# Altium integrated library Linear Technology Power Management uModule Regulators.IntLib: 166 symbols (part 30 of 67)
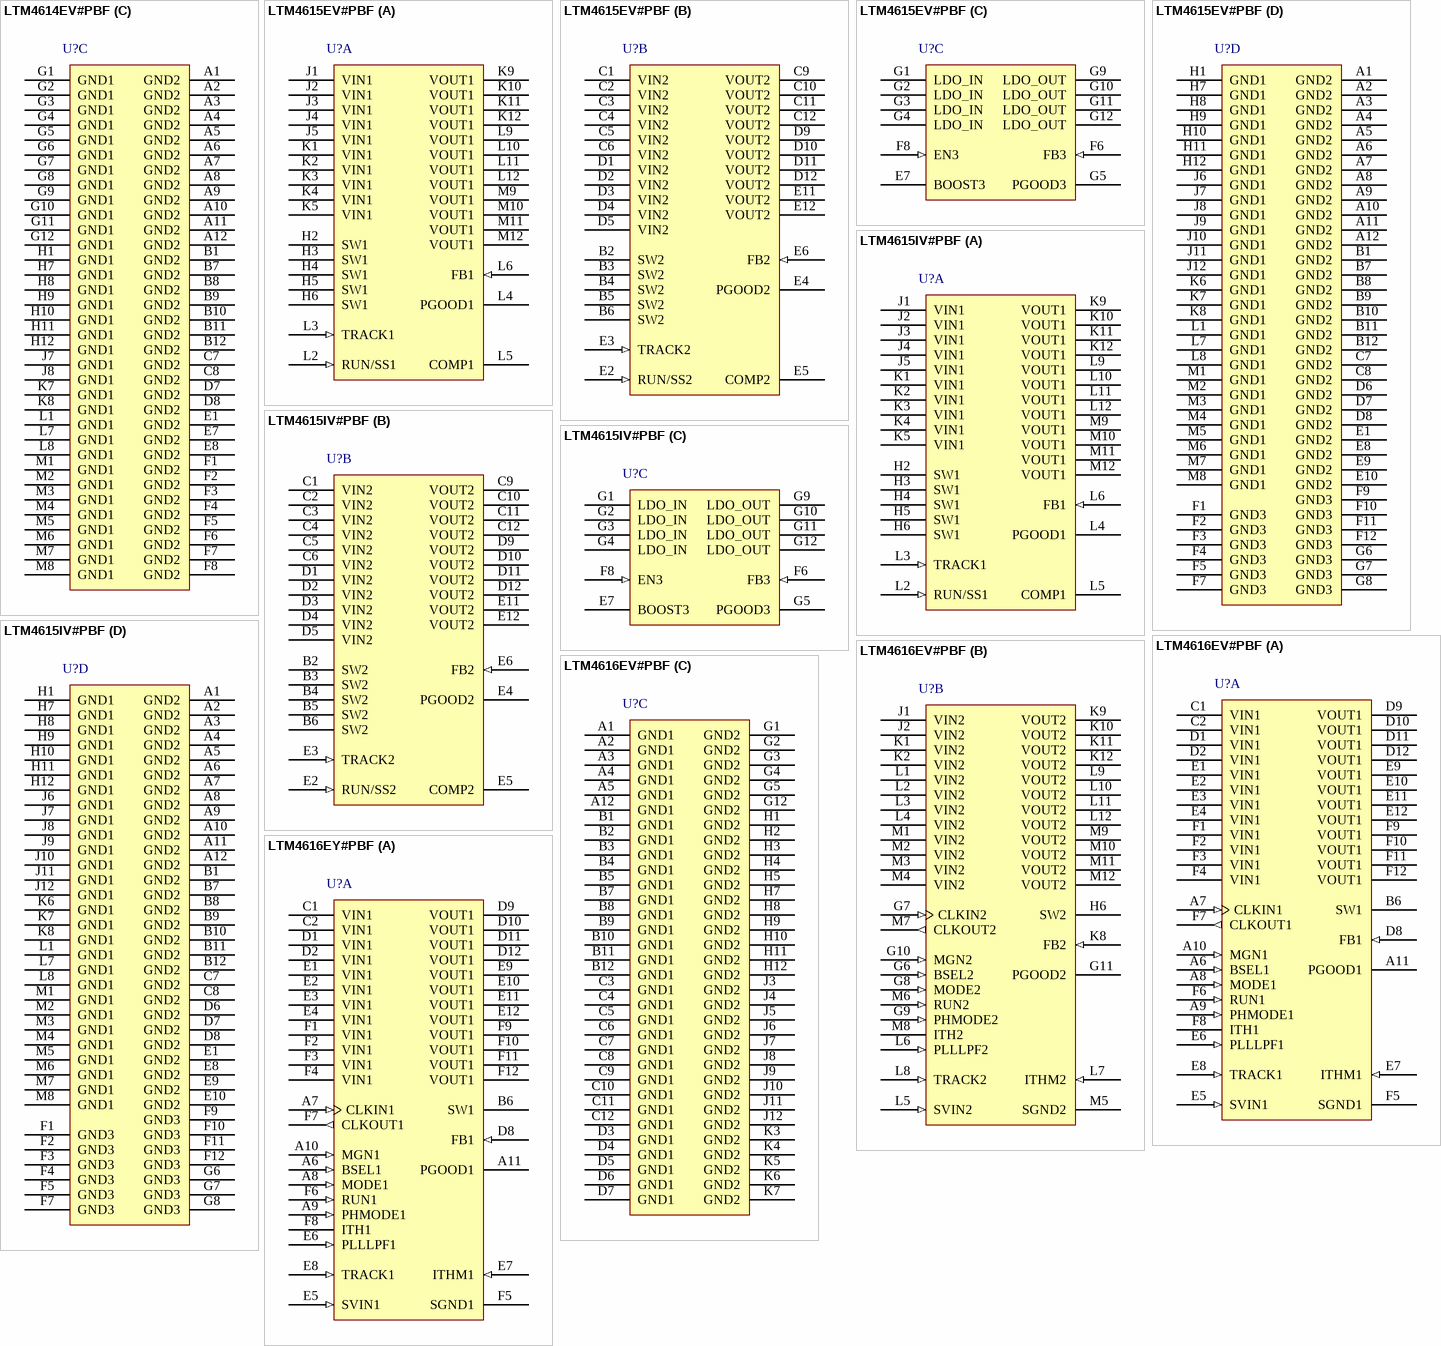
[diagram p56: symbols LTM4614EV#PBF to LTM4616EY#PBF]

## LTM4614EV#PBF
designator U?
Dual 4 A per Channel Low VIN DC/DC uModule Regulator, 144-pin LGA, -40 to 125 degC, Pb-Free, Tray; Manufacturer: Linear Technology; PartNumber: LTM4614EV#PBF; Extended Temp: E, I; Frequency(kHz): 1250; Ishutdown(uA): 7; Isupply(mA): 20; Number of Outputs: 2; Output Current(A): 4; Switch Current(A): 8; Synchronous: yes; Topology: Buck; Vin Max(V): 5.5; Vin Min(V): 2.375; Vout Max(V): 5; Vout Min(V): 0.8; DatasheetVersion: Rev. B; PackageVersion: Rev. C, 01/2013; PackageReference: LGA-144; PackageDescription: 144-Pin LGA, Body 15 x 15 mm, Pitch 1.27 mm; Supplier 1: Digi-Key; Supplier Part Number 1: LTM4614EV#PBF-ND; Supplier 2: Farnell; Supplier Part Number 2: 1799820; Supplier 3: Newark; Supplier Part Number 3: 56P4237; Packing: Tray; RoHS: TRUE; Tracking: yes; Mounting Technology: Surface Mount; Code_JEDEC: MS-028; ComponentLink1Description: Manufacturer URL; ComponentLink1URL: http://www.linear.com/; ComponentLink2Description: Datasheet; ComponentLink2URL: http://cds.linear.com/docs/en/datasheet/4614fb.pdf; ComponentLink3Description: Package Specification; ComponentLink3URL: http://cds.linear.com/docs/en/packaging/05081816_C_lga144.pdf
footprint LT-LGA-144-05-08-1816_V (LGA, 144-Leads, Body 15x15mm, Pitch 1.27mm)
part A pins: H2 SW1 "The switching node of the circuit is used for testing purposes. This can be connected to copper on the board for improved thermal performance.", H3 SW1 "The switching node of the circuit is used for testing purposes. This can be connected to copper on the board for improved thermal performance.", H4 SW1 "The switching node of the circuit is used for testing purposes. This can be connected to copper on the board for improved thermal performance.", H5 SW1 "The switching node of the circuit is used for testing purposes. This can be connected to copper on the board for improved thermal performance.", H6 SW1 "The switching node of the circuit is used for testing purposes. This can be connected to copper on the board for improved thermal performance.", J1 VIN1 (power) "Power Input Pins. Apply input voltage between these pins and GND pins. Recommend placing input decoupling capacitance directly between VIN pins and GND pins.", J2 VIN1 (power) "Power Input Pins. Apply input voltage between these pins and GND pins. Recommend placing input decoupling capacitance directly between VIN pins and GND pins.", J3 VIN1 (power) "Power Input Pins. Apply input voltage between these pins and GND pins. Recommend placing input decoupling capacitance directly between VIN pins and GND pins.", J4 VIN1 (power) "Power Input Pins. Apply input voltage between these pins and GND pins. Recommend placing input decoupling capacitance directly between VIN pins and GND pins.", J5 VIN1 (power) "Power Input Pins. Apply input voltage between these pins and GND pins. Recommend placing input decoupling capacitance directly between VIN pins and GND pins.", J6 VIN1 (power) "Power Input Pins. Apply input voltage between these pins and GND pins. Recommend placing input decoupling capacitance directly between VIN pins and GND pins.", J9 VOUT1 (power) "Power Output Pins. Apply output load between these pins and GND pins. Recommend placing output decoupling capacitance directly between these pins and GND pins. Review Table 4.", J10 VOUT1 (power) "Power Output Pins. Apply output load between these pins and GND pins. Recommend placing output decoupling capacitance directly between these pins and GND pins. Review Table 4.", J11 VOUT1 (power) "Power Output Pins. Apply output load between these pins and GND pins. Recommend placing output decoupling capacitance directly between these pins and GND pins. Review Table 4.", J12 VOUT1 (power) "Power Output Pins. Apply output load between these pins and GND pins. Recommend placing output decoupling capacitance directly between these pins and GND pins. Review Table 4.", K1 VIN1 (power) "Power Input Pins. Apply input voltage between these pins and GND pins. Recommend placing input decoupling capacitance directly between VIN pins and GND pins.", K2 VIN1 (power) "Power Input Pins. Apply input voltage between these pins and GND pins. Recommend placing input decoupling capacitance directly between VIN pins and GND pins.", K3 VIN1 (power) "Power Input Pins. Apply input voltage between these pins and GND pins. Recommend placing input decoupling capacitance directly between VIN pins and GND pins.", K4 VIN1 (power) "Power Input Pins. Apply input voltage between these pins and GND pins. Recommend placing input decoupling capacitance directly between VIN pins and GND pins.", K5 VIN1 (power) "Power Input Pins. Apply input voltage between these pins and GND pins. Recommend placing input decoupling capacitance directly between VIN pins and GND pins.", K6 VIN1 (power) "Power Input Pins. Apply input voltage between these pins and GND pins. Recommend placing input decoupling capacitance directly between VIN pins and GND pins.", K9 VOUT1 (power) "Power Output Pins. Apply output load between these pins and GND pins. Recommend placing output decoupling capacitance directly between these pins and GND pins. Review Table 4.", K10 VOUT1 (power) "Power Output Pins. Apply output load between these pins and GND pins. Recommend placing output decoupling capacitance directly between these pins and GND pins. Review Table 4.", K11 VOUT1 (power) "Power Output Pins. Apply output load between these pins and GND pins. Recommend placing output decoupling capacitance directly between these pins and GND pins. Review Table 4.", K12 VOUT1 (power) "Power Output Pins. Apply output load between these pins and GND pins. Recommend placing output decoupling capacitance directly between these pins and GND pins. Review Table 4.", L2 RUN/SS1 (in), L3 TRACK1 (in) "Output Voltage Tracking Pins. When the module is configured as a master output, then a soft-start capacitor is placed on the RUN/SS pin to ground to control the master ramp rate, or an external ramp can be applied to the (See Datasheet)", L4 PGOOD1 (oc) "Output Voltage Power Good Indicator. Open-drain logic output that is pulled to ground when the output voltage is not within +/-7.5% of the regulation point.", L5 COMP1 "Current Control Threshold and Error Amplifier Compensation Point. The current comparator threshold increases with this control voltage. Two power modules can current share when this pin is connected in parallel with the (See Datasheet)", L6 FB1 (in) "The Negative Input of the Switching Regulators’ Error Amplifier. Internally, these pins are connected to VOUT with a 4.99k precision resistor. Different output voltages can be programmed with an externally connecte(See Datasheet)", L9 VOUT1 (power) "Power Output Pins. Apply output load between these pins and GND pins. Recommend placing output decoupling capacitance directly between these pins and GND pins. Review Table 4.", L10 VOUT1 (power) "Power Output Pins. Apply output load between these pins and GND pins. Recommend placing output decoupling capacitance directly between these pins and GND pins. Review Table 4.", L11 VOUT1 (power) "Power Output Pins. Apply output load between these pins and GND pins. Recommend placing output decoupling capacitance directly between these pins and GND pins. Review Table 4.", L12 VOUT1 (power) "Power Output Pins. Apply output load between these pins and GND pins. Recommend placing output decoupling capacitance directly between these pins and GND pins. Review Table 4.", M9 VOUT1 (power) "Power Output Pins. Apply output load between these pins and GND pins. Recommend placing output decoupling capacitance directly between these pins and GND pins. Review Table 4.", M10 VOUT1 (power) "Power Output Pins. Apply output load between these pins and GND pins. Recommend placing output decoupling capacitance directly between these pins and GND pins. Review Table 4.", M11 VOUT1 (power) "Power Output Pins. Apply output load between these pins and GND pins. Recommend placing output decoupling capacitance directly between these pins and GND pins. Review Table 4.", M12 VOUT1 (power) "Power Output Pins. Apply output load between these pins and GND pins. Recommend placing output decoupling capacitance directly between these pins and GND pins. Review Table 4."
part B pins: B2 SW2 "The switching node of the circuit is used for testing purposes. This can be connected to copper on the board for improved thermal performance.", B3 SW2 "The switching node of the circuit is used for testing purposes. This can be connected to copper on the board for improved thermal performance.", B4 SW2 "The switching node of the circuit is used for testing purposes. This can be connected to copper on the board for improved thermal performance.", B5 SW2 "The switching node of the circuit is used for testing purposes. This can be connected to copper on the board for improved thermal performance.", B6 SW2 "The switching node of the circuit is used for testing purposes. This can be connected to copper on the board for improved thermal performance.", C1 VIN2 (power) "Power Input Pins. Apply input voltage between these pins and GND pins. Recommend placing input decoupling capacitance directly between VIN pins and GND pins.", C2 VIN2 (power) "Power Input Pins. Apply input voltage between these pins and GND pins. Recommend placing input decoupling capacitance directly between VIN pins and GND pins.", C3 VIN2 (power) "Power Input Pins. Apply input voltage between these pins and GND pins. Recommend placing input decoupling capacitance directly between VIN pins and GND pins.", C4 VIN2 (power) "Power Input Pins. Apply input voltage between these pins and GND pins. Recommend placing input decoupling capacitance directly between VIN pins and GND pins.", C5 VIN2 (power) "Power Input Pins. Apply input voltage between these pins and GND pins. Recommend placing input decoupling capacitance directly between VIN pins and GND pins.", C6 VIN2 (power) "Power Input Pins. Apply input voltage between these pins and GND pins. Recommend placing input decoupling capacitance directly between VIN pins and GND pins.", C9 VOUT2 (power) "Power Output Pins. Apply output load between these pins and GND pins. Recommend placing output decoupling capacitance directly between these pins and GND pins. Review Table 4.", C10 VOUT2 (power) "Power Output Pins. Apply output load between these pins and GND pins. Recommend placing output decoupling capacitance directly between these pins and GND pins. Review Table 4.", C11 VOUT2 (power) "Power Output Pins. Apply output load between these pins and GND pins. Recommend placing output decoupling capacitance directly between these pins and GND pins. Review Table 4.", C12 VOUT2 (power) "Power Output Pins. Apply output load between these pins and GND pins. Recommend placing output decoupling capacitance directly between these pins and GND pins. Review Table 4.", D1 VIN2 (power) "Power Input Pins. Apply input voltage between these pins and GND pins. Recommend placing input decoupling capacitance directly between VIN pins and GND pins.", D2 VIN2 (power) "Power Input Pins. Apply input voltage between these pins and GND pins. Recommend placing input decoupling capacitance directly between VIN pins and GND pins.", D3 VIN2 (power) "Power Input Pins. Apply input voltage between these pins and GND pins. Recommend placing input decoupling capacitance directly between VIN pins and GND pins.", D4 VIN2 (power) "Power Input Pins. Apply input voltage between these pins and GND pins. Recommend placing input decoupling capacitance directly between VIN pins and GND pins.", D5 VIN2 (power) "Power Input Pins. Apply input voltage between these pins and GND pins. Recommend placing input decoupling capacitance directly between VIN pins and GND pins.", D6 VIN2 (power) "Power Input Pins. Apply input voltage between these pins and GND pins. Recommend placing input decoupling capacitance directly between VIN pins and GND pins.", D9 VOUT2 (power) "Power Output Pins. Apply output load between these pins and GND pins. Recommend placing output decoupling capacitance directly between these pins and GND pins. Review Table 4.", D10 VOUT2 (power) "Power Output Pins. Apply output load between these pins and GND pins. Recommend placing output decoupling capacitance directly between these pins and GND pins. Review Table 4.", D11 VOUT2 (power) "Power Output Pins. Apply output load between these pins and GND pins. Recommend placing output decoupling capacitance directly between these pins and GND pins. Review Table 4.", D12 VOUT2 (power) "Power Output Pins. Apply output load between these pins and GND pins. Recommend placing output decoupling capacitance directly between these pins and GND pins. Review Table 4.", E2 RUN/SS2 (in), E3 TRACK2 (in) "Output Voltage Tracking Pins. When the module is configured as a master output, then a soft-start capacitor is placed on the RUN/SS pin to ground to control the master ramp rate, or an external ramp can be applied to the (See Datasheet)", E4 PGOOD2 (oc) "Output Voltage Power Good Indicator. Open-drain logic output that is pulled to ground when the output voltage is not within +/-7.5% of the regulation point.", E5 COMP2 "Current Control Threshold and Error Amplifier Compensation Point. The current comparator threshold increases with this control voltage. Two power modules can current share when this pin is connected in parallel with the (See Datasheet)", E6 FB2 (in) "The Negative Input of the Switching Regulators’ Error Amplifier. Internally, these pins are connected to VOUT with a 4.99k precision resistor. Different output voltages can be programmed with an externally connecte(See Datasheet)", E9 VOUT2 (power) "Power Output Pins. Apply output load between these pins and GND pins. Recommend placing output decoupling capacitance directly between these pins and GND pins. Review Table 4.", E10 VOUT2 (power) "Power Output Pins. Apply output load between these pins and GND pins. Recommend placing output decoupling capacitance directly between these pins and GND pins. Review Table 4.", E11 VOUT2 (power) "Power Output Pins. Apply output load between these pins and GND pins. Recommend placing output decoupling capacitance directly between these pins and GND pins. Review Table 4.", E12 VOUT2 (power) "Power Output Pins. Apply output load between these pins and GND pins. Recommend placing output decoupling capacitance directly between these pins and GND pins. Review Table 4.", F9 VOUT2 (power) "Power Output Pins. Apply output load between these pins and GND pins. Recommend placing output decoupling capacitance directly between these pins and GND pins. Review Table 4.", F10 VOUT2 (power) "Power Output Pins. Apply output load between these pins and GND pins. Recommend placing output decoupling capacitance directly between these pins and GND pins. Review Table 4.", F11 VOUT2 (power) "Power Output Pins. Apply output load between these pins and GND pins. Recommend placing output decoupling capacitance directly between these pins and GND pins. Review Table 4.", F12 VOUT2 (power) "Power Output Pins. Apply output load between these pins and GND pins. Recommend placing output decoupling capacitance directly between these pins and GND pins. Review Table 4."
part C pins: A1 GND2 (power) "Power Ground Pins for Both Input and Output Returns.", A2 GND2 (power) "Power Ground Pins for Both Input and Output Returns.", A3 GND2 (power) "Power Ground Pins for Both Input and Output Returns.", A4 GND2 (power) "Power Ground Pins for Both Input and Output Returns.", A5 GND2 (power) "Power Ground Pins for Both Input and Output Returns.", A6 GND2 (power) "Power Ground Pins for Both Input and Output Returns.", A7 GND2 (power) "Power Ground Pins for Both Input and Output Returns.", A8 GND2 (power) "Power Ground Pins for Both Input and Output Returns.", A9 GND2 (power) "Power Ground Pins for Both Input and Output Returns.", A10 GND2 (power) "Power Ground Pins for Both Input and Output Returns.", A11 GND2 (power) "Power Ground Pins for Both Input and Output Returns.", A12 GND2 (power) "Power Ground Pins for Both Input and Output Returns.", B1 GND2 (power) "Power Ground Pins for Both Input and Output Returns.", B7 GND2 (power) "Power Ground Pins for Both Input and Output Returns.", B8 GND2 (power) "Power Ground Pins for Both Input and Output Returns.", B9 GND2 (power) "Power Ground Pins for Both Input and Output Returns.", B10 GND2 (power) "Power Ground Pins for Both Input and Output Returns.", B11 GND2 (power) "Power Ground Pins for Both Input and Output Returns.", B12 GND2 (power) "Power Ground Pins for Both Input and Output Returns.", C7 GND2 (power) "Power Ground Pins for Both Input and Output Returns.", C8 GND2 (power) "Power Ground Pins for Both Input and Output Returns.", D7 GND2 (power) "Power Ground Pins for Both Input and Output Returns.", D8 GND2 (power) "Power Ground Pins for Both Input and Output Returns.", E1 GND2 (power) "Power Ground Pins for Both Input and Output Returns.", E7 GND2 (power) "Power Ground Pins for Both Input and Output Returns.", E8 GND2 (power) "Power Ground Pins for Both Input and Output Returns.", F1 GND2 (power) "Power Ground Pins for Both Input and Output Returns.", F2 GND2 (power) "Power Ground Pins for Both Input and Output Returns.", F3 GND2 (power) "Power Ground Pins for Both Input and Output Returns.", F4 GND2 (power) "Power Ground Pins for Both Input and Output Returns.", F5 GND2 (power) "Power Ground Pins for Both Input and Output Returns.", F6 GND2 (power) "Power Ground Pins for Both Input and Output Returns.", F7 GND2 (power) "Power Ground Pins for Both Input and Output Returns.", F8 GND2 (power) "Power Ground Pins for Both Input and Output Returns.", G1 GND1 (power) "Power Ground Pins for Both Input and Output Returns.", G2 GND1 (power) "Power Ground Pins for Both Input and Output Returns.", G3 GND1 (power) "Power Ground Pins for Both Input and Output Returns.", G4 GND1 (power) "Power Ground Pins for Both Input and Output Returns.", G5 GND1 (power) "Power Ground Pins for Both Input and Output Returns.", G6 GND1 (power) "Power Ground Pins for Both Input and Output Returns.", G7 GND1 (power) "Power Ground Pins for Both Input and Output Returns.", G8 GND1 (power) "Power Ground Pins for Both Input and Output Returns.", G9 GND1 (power) "Power Ground Pins for Both Input and Output Returns.", G10 GND1 (power) "Power Ground Pins for Both Input and Output Returns.", G11 GND1 (power) "Power Ground Pins for Both Input and Output Returns.", G12 GND1 (power) "Power Ground Pins for Both Input and Output Returns.", H1 GND1 (power) "Power Ground Pins for Both Input and Output Returns.", H7 GND1 (power) "Power Ground Pins for Both Input and Output Returns.", H8 GND1 (power) "Power Ground Pins for Both Input and Output Returns.", H9 GND1 (power) "Power Ground Pins for Both Input and Output Returns.", H10 GND1 (power) "Power Ground Pins for Both Input and Output Returns.", H11 GND1 (power) "Power Ground Pins for Both Input and Output Returns.", H12 GND1 (power) "Power Ground Pins for Both Input and Output Returns.", J7 GND1 (power) "Power Ground Pins for Both Input and Output Returns.", J8 GND1 (power) "Power Ground Pins for Both Input and Output Returns.", K7 GND1 (power) "Power Ground Pins for Both Input and Output Returns.", K8 GND1 (power) "Power Ground Pins for Both Input and Output Returns.", L1 GND1 (power) "Power Ground Pins for Both Input and Output Returns.", L7 GND1 (power) "Power Ground Pins for Both Input and Output Returns.", L8 GND1 (power) "Power Ground Pins for Both Input and Output Returns.", M1 GND1 (power) "Power Ground Pins for Both Input and Output Returns.", M2 GND1 (power) "Power Ground Pins for Both Input and Output Returns.", M3 GND1 (power) "Power Ground Pins for Both Input and Output Returns.", M4 GND1 (power) "Power Ground Pins for Both Input and Output Returns.", M5 GND1 (power) "Power Ground Pins for Both Input and Output Returns.", M6 GND1 (power) "Power Ground Pins for Both Input and Output Returns.", M7 GND1 (power) "Power Ground Pins for Both Input and Output Returns.", M8 GND1 (power) "Power Ground Pins for Both Input and Output Returns."

## LTM4615EV#PBF
designator U?
Triple Output, Low Voltage DC/DC uModule Regulator, 144-pin LGA, -40 to 125 degC, Pb-Free, Tray; Manufacturer: Linear Technology; PartNumber: LTM4615EV#PBF; Extended Temp: E,I; Frequency(kHz): 1250; Ishutdown(uA): 7; Isupply(mA): 1.48; Number of Outputs: 3; Output Current(A): 4; Switch Current(A): 6; Synchronous: yes; Topology: Buck, LDO; Vin Max(V): 5.5; Vin Min(V): 2.375; Vout Max(V): 5; Vout Min(V): 0.8; DatasheetVersion: Rev. A; PackageVersion: Rev. C, 01/2013; PackageReference: LGA-144; PackageDescription: 144-Pin LGA, Body 15 x 15 mm, Pitch 1.27 mm; Supplier 1: Digi-Key; Supplier Part Number 1: LTM4615EV#PBF-ND; Supplier 2: Farnell; Supplier Part Number 2: 1865713; Supplier 3: Newark; Supplier Part Number 3: 68R7656; Packing: Tray; RoHS: TRUE; Tracking: yes; Mounting Technology: Surface Mount; Code_JEDEC: MS-028; ComponentLink1Description: Manufacturer URL; ComponentLink1URL: http://www.linear.com/; ComponentLink2Description: Datasheet; ComponentLink2URL: http://cds.linear.com/docs/en/datasheet/4615fa.pdf; ComponentLink3Description: Package Specification; ComponentLink3URL: http://cds.linear.com/docs/en/packaging/05081816_C_lga144.pdf
footprint LT-LGA-144-05-08-1816_V (LGA, 144-Leads, Body 15x15mm, Pitch 1.27mm)
part A pins: H2 SW1 "The switching node of the circuit is used for testing purposes. This can be connected to copper on the board for improved thermal performance. SW1 and The switching node of the circuit is used for testing purposes. This can (See Datasheet)", H3 SW1 "The switching node of the circuit is used for testing purposes. This can be connected to copper on the board for improved thermal performance. SW1 and The switching node of the circuit is used for testing purposes. This can (See Datasheet)", H4 SW1 "The switching node of the circuit is used for testing purposes. This can be connected to copper on the board for improved thermal performance. SW1 and The switching node of the circuit is used for testing purposes. This can (See Datasheet)", H5 SW1 "The switching node of the circuit is used for testing purposes. This can be connected to copper on the board for improved thermal performance. SW1 and The switching node of the circuit is used for testing purposes. This can (See Datasheet)", H6 SW1 "The switching node of the circuit is used for testing purposes. This can be connected to copper on the board for improved thermal performance. SW1 and The switching node of the circuit is used for testing purposes. This can (See Datasheet)", J1 VIN1 (power) "Power Input Pins. Apply input voltage between these pins and GND pins. Recommend placing input decoupling capacitance directly between VIN pins and GND pins.", J2 VIN1 (power) "Power Input Pins. Apply input voltage between these pins and GND pins. Recommend placing input decoupling capacitance directly between VIN pins and GND pins.", J3 VIN1 (power) "Power Input Pins. Apply input voltage between these pins and GND pins. Recommend placing input decoupling capacitance directly between VIN pins and GND pins.", J4 VIN1 (power) "Power Input Pins. Apply input voltage between these pins and GND pins. Recommend placing input decoupling capacitance directly between VIN pins and GND pins.", J5 VIN1 (power) "Power Input Pins. Apply input voltage between these pins and GND pins. Recommend placing input decoupling capacitance directly between VIN pins and GND pins.", K1 VIN1 (power) "Power Input Pins. Apply input voltage between these pins and GND pins. Recommend placing input decoupling capacitance directly between VIN pins and GND pins.", K2 VIN1 (power) "Power Input Pins. Apply input voltage between these pins and GND pins. Recommend placing input decoupling capacitance directly between VIN pins and GND pins.", K3 VIN1 (power) "Power Input Pins. Apply input voltage between these pins and GND pins. Recommend placing input decoupling capacitance directly between VIN pins and GND pins.", K4 VIN1 (power) "Power Input Pins. Apply input voltage between these pins and GND pins. Recommend placing input decoupling capacitance directly between VIN pins and GND pins.", K5 VIN1 (power) "Power Input Pins. Apply input voltage between these pins and GND pins. Recommend placing input decoupling capacitance directly between VIN pins and GND pins.", K9 VOUT1 (power) "Power Output Pins. Apply output load between these pins and GND pins. Recommend placing output decoupling capacitance directly between these pins and GND pins. Review Table 4.", K10 VOUT1 (power) "Power Output Pins. Apply output load between these pins and GND pins. Recommend placing output decoupling capacitance directly between these pins and GND pins. Review Table 4.", K11 VOUT1 (power) "Power Output Pins. Apply output load between these pins and GND pins. Recommend placing output decoupling capacitance directly between these pins and GND pins. Review Table 4.", K12 VOUT1 (power) "Power Output Pins. Apply output load between these pins and GND pins. Recommend placing output decoupling capacitance directly between these pins and GND pins. Review Table 4.", L2 RUN/SS1 (in), L3 TRACK1 (in) "Output Voltage Tracking Pins. When the module is configured as a master output, then a soft-start capacitor is placed on the RUN/SS pin to ground to control the master ramp rate, or an external ramp can be applied to the (See Datasheet)", L4 PGOOD1 (oc) "Output Voltage Power Good Indicator. Open-drain logic output that is pulled to ground when the output voltage is not within +/-7.5% of the regulation point.", L5 COMP1 "Current Control Threshold and Error Amplifier Compensation Point. The current comparator threshold increases with this control voltage. Two power modules can current share when this pin is connected in parallel with the (See Datasheet)", L6 FB1 (in) "The Negative Input of the Switching Regulators’ Error Amplifier. Internally, these pins are connected to VOUT with a 4.99k precision resistor. Different output voltages can be programmed with an additional resistor betwee(See Datasheet)", L9 VOUT1 (power) "Power Output Pins. Apply output load between these pins and GND pins. Recommend placing output decoupling capacitance directly between these pins and GND pins. Review Table 4.", L10 VOUT1 (power) "Power Output Pins. Apply output load between these pins and GND pins. Recommend placing output decoupling capacitance directly between these pins and GND pins. Review Table 4.", L11 VOUT1 (power) "Power Output Pins. Apply output load between these pins and GND pins. Recommend placing output decoupling capacitance directly between these pins and GND pins. Review Table 4.", L12 VOUT1 (power) "Power Output Pins. Apply output load between these pins and GND pins. Recommend placing output decoupling capacitance directly between these pins and GND pins. Review Table 4.", M9 VOUT1 (power) "Power Output Pins. Apply output load between these pins and GND pins. Recommend placing output decoupling capacitance directly between these pins and GND pins. Review Table 4.", M10 VOUT1 (power) "Power Output Pins. Apply output load between these pins and GND pins. Recommend placing output decoupling capacitance directly between these pins and GND pins. Review Table 4.", M11 VOUT1 (power) "Power Output Pins. Apply output load between these pins and GND pins. Recommend placing output decoupling capacitance directly between these pins and GND pins. Review Table 4.", M12 VOUT1 (power) "Power Output Pins. Apply output load between these pins and GND pins. Recommend placing output decoupling capacitance directly between these pins and GND pins. Review Table 4."
part B pins: B2 SW2 "The switching node of the circuit is used for testing purposes. This can be connected to copper on the board for improved thermal performance. SW1 and SW2 must be floating on separate copper planes.", B3 SW2 "The switching node of the circuit is used for testing purposes. This can be connected to copper on the board for improved thermal performance. SW1 and SW2 must be floating on separate copper planes.", B4 SW2 "The switching node of the circuit is used for testing purposes. This can be connected to copper on the board for improved thermal performance. SW1 and SW2 must be floating on separate copper planes.", B5 SW2 "The switching node of the circuit is used for testing purposes. This can be connected to copper on the board for improved thermal performance. SW1 and SW2 must be floating on separate copper planes.", B6 SW2 "The switching node of the circuit is used for testing purposes. This can be connected to copper on the board for improved thermal performance. SW1 and SW2 must be floating on separate copper planes.", C1 VIN2 (power) "Power Input Pins. Apply input voltage between these pins and GND pins. Recommend placing input decoupling capacitance directly between VIN pins and GND pins.", C2 VIN2 (power) "Power Input Pins. Apply input voltage between these pins and GND pins. Recommend placing input decoupling capacitance directly between VIN pins and GND pins.", C3 VIN2 (power) "Power Input Pins. Apply input voltage between these pins and GND pins. Recommend placing input decoupling capacitance directly between VIN pins and GND pins.", C4 VIN2 (power) "Power Input Pins. Apply input voltage between these pins and GND pins. Recommend placing input decoupling capacitance directly between VIN pins and GND pins.", C5 VIN2 (power) "Power Input Pins. Apply input voltage between these pins and GND pins. Recommend placing input decoupling capacitance directly between VIN pins and GND pins.", C6 VIN2 (power) "Power Input Pins. Apply input voltage between these pins and GND pins. Recommend placing input decoupling capacitance directly between VIN pins and GND pins.", C9 VOUT2 (power) "Power Output Pins. Apply output load between these pins and GND pins. Recommend placing output decoupling capacitance directly between these pins and GND pins. Review Table 4.", C10 VOUT2 (power) "Power Output Pins. Apply output load between these pins and GND pins. Recommend placing output decoupling capacitance directly between these pins and GND pins. Review Table 4.", C11 VOUT2 (power) "Power Output Pins. Apply output load between these pins and GND pins. Recommend placing output decoupling capacitance directly between these pins and GND pins. Review Table 4.", C12 VOUT2 (power) "Power Output Pins. Apply output load between these pins and GND pins. Recommend placing output decoupling capacitance directly between these pins and GND pins. Review Table 4.", D1 VIN2 (power) "Power Input Pins. Apply input voltage between these pins and GND pins. Recommend placing input decoupling capacitance directly between VIN pins and GND pins.", D2 VIN2 (power) "Power Input Pins. Apply input voltage between these pins and GND pins. Recommend placing input decoupling capacitance directly between VIN pins and GND pins.", D3 VIN2 (power) "Power Input Pins. Apply input voltage between these pins and GND pins. Recommend placing input decoupling capacitance directly between VIN pins and GND pins.", D4 VIN2 (power) "Power Input Pins. Apply input voltage between these pins and GND pins. Recommend placing input decoupling capacitance directly between VIN pins and GND pins.", D5 VIN2 (power) "Power Input Pins. Apply input voltage between these pins and GND pins. Recommend placing input decoupling capacitance directly between VIN pins and GND pins.", D9 VOUT2 (power) "Power Output Pins. Apply output load between these pins and GND pins. Recommend placing output decoupling capacitance directly between these pins and GND pins. Review Table 4.", D10 VOUT2 (power) "Power Output Pins. Apply output load between these pins and GND pins. Recommend placing output decoupling capacitance directly between these pins and GND pins. Review Table 4.", D11 VOUT2 (power) "Power Output Pins. Apply output load between these pins and GND pins. Recommend placing output decoupling capacitance directly between these pins and GND pins. Review Table 4.", D12 VOUT2 (power) "Power Output Pins. Apply output load between these pins and GND pins. Recommend placing output decoupling capacitance directly between these pins and GND pins. Review Table 4.", E2 RUN/SS2 (in), E3 TRACK2 (in) "Output Voltage Tracking Pins. When the module is configured as a master output, then a soft-start capacitor is placed on the RUN/SS pin to ground to control the master ramp rate, or an external ramp can be applied to the (See Datasheet)", E4 PGOOD2 (oc) "Output Voltage Power Good Indicator. Open-drain logic output that is pulled to ground when the output voltage is not within +/-7.5% of the regulation point.", E5 COMP2 "Current Control Threshold and Error Amplifier Compensation Point. The current comparator threshold increases with this control voltage. Two power modules can current share when this pin is connected in parallel with the (See Datasheet)", E6 FB2 (in) "The Negative Input of the Switching Regulators’ Error Amplifier. Internally, these pins are connected to VOUT with a 4.99k precision resistor. Different output voltages can be programmed with an additional resistor betwee(See Datasheet)", E11 VOUT2 (power) "Power Output Pins. Apply output load between these pins and GND pins. Recommend placing output decoupling capacitance directly between these pins and GND pins. Review Table 4.", E12 VOUT2 (power) "Power Output Pins. Apply output load between these pins and GND pins. Recommend placing output decoupling capacitance directly between these pins and GND pins. Review Table 4."
part C pins: E7 BOOST3 (power) "Boost Supply for Driving the Internal VLDO NMOS Into Full Enhancement. The pin is use for testing the internal boost converter. The output is typically 5V.", F6 FB3 (in) "The Negative Input of the LDO Error Amplifier. Internally the pin is connected to LDO_OUT with a 4.99k resistor. Different output voltages can be programmed with an additional resistor between the FB3 and GND pins. See the (See Datasheet)", F8 EN3 (in) "VLDO Enable Pin.", G1 LDO_IN (power) "VLDO Input Power Pins. Place input capacitor close to these pins.", G2 LDO_IN (power) "VLDO Input Power Pins. Place input capacitor close to these pins.", G3 LDO_IN (power) "VLDO Input Power Pins. Place input capacitor close to these pins.", G4 LDO_IN (power) "VLDO Input Power Pins. Place input capacitor close to these pins.", G5 PGOOD3 (hiz) "VLDO Power Good Pin.", G9 LDO_OUT (power) "VLDO Output Power Pins. Place output capacitor close to these pins. Minimum 1mA load is necessary for proper output voltage accuracy.", G10 LDO_OUT (power) "VLDO Output Power Pins. Place output capacitor close to these pins. Minimum 1mA load is necessary for proper output voltage accuracy.", G11 LDO_OUT (power) "VLDO Output Power Pins. Place output capacitor close to these pins. Minimum 1mA load is necessary for proper output voltage accuracy.", G12 LDO_OUT (power) "VLDO Output Power Pins. Place output capacitor close to these pins. Minimum 1mA load is necessary for proper output voltage accuracy."
part D pins: A1 GND2 (power) "Power Ground Pins for Both Input and Output Returns.", A2 GND2 (power) "Power Ground Pins for Both Input and Output Returns.", A3 GND2 (power) "Power Ground Pins for Both Input and Output Returns.", A4 GND2 (power) "Power Ground Pins for Both Input and Output Returns.", A5 GND2 (power) "Power Ground Pins for Both Input and Output Returns.", A6 GND2 (power) "Power Ground Pins for Both Input and Output Returns.", A7 GND2 (power) "Power Ground Pins for Both Input and Output Returns.", A8 GND2 (power) "Power Ground Pins for Both Input and Output Returns.", A9 GND2 (power) "Power Ground Pins for Both Input and Output Returns.", A10 GND2 (power) "Power Ground Pins for Both Input and Output Returns.", A11 GND2 (power) "Power Ground Pins for Both Input and Output Returns.", A12 GND2 (power) "Power Ground Pins for Both Input and Output Returns.", B1 GND2 (power) "Power Ground Pins for Both Input and Output Returns.", B7 GND2 (power) "Power Ground Pins for Both Input and Output Returns.", B8 GND2 (power) "Power Ground Pins for Both Input and Output Returns.", B9 GND2 (power) "Power Ground Pins for Both Input and Output Returns.", B10 GND2 (power) "Power Ground Pins for Both Input and Output Returns.", B11 GND2 (power) "Power Ground Pins for Both Input and Output Returns.", B12 GND2 (power) "Power Ground Pins for Both Input and Output Returns.", C7 GND2 (power) "Power Ground Pins for Both Input and Output Returns.", C8 GND2 (power) "Power Ground Pins for Both Input and Output Returns.", D6 GND2 (power) "Power Ground Pins for Both Input and Output Returns.", D7 GND2 (power) "Power Ground Pins for Both Input and Output Returns.", D8 GND2 (power) "Power Ground Pins for Both Input and Output Returns.", E1 GND2 (power) "Power Ground Pins for Both Input and Output Returns.", E8 GND2 (power) "Power Ground Pins for Both Input and Output Returns.", E9 GND2 (power) "Power Ground Pins for Both Input and Output Returns.", E10 GND2 (power) "Power Ground Pins for Both Input and Output Returns.", F1 GND3 (power) "The power ground pins for both input and output returns for the internal VLDO.", F2 GND3 (power) "The power ground pins for both input and output returns for the internal VLDO.", F3 GND3 (power) "The power ground pins for both input and output returns for the internal VLDO.", F4 GND3 (power) "The power ground pins for both input and output returns for the internal VLDO.", F5 GND3 (power) "The power ground pins for both input and output returns for the internal VLDO.", F7 GND3 (power) "The power ground pins for both input and output returns for the internal VLDO.", F9 GND3 (power) "The power ground pins for both input and output returns for the internal VLDO.", F10 GND3 (power) "The power ground pins for both input and output returns for the internal VLDO.", F11 GND3 (power) "The power ground pins for both input and output returns for the internal VLDO.", F12 GND3 (power) "The power ground pins for both input and output returns for the internal VLDO.", G6 GND3 (power) "The power ground pins for both input and output returns for the internal VLDO.", G7 GND3 (power) "The power ground pins for both input and output returns for the internal VLDO.", G8 GND3 (power) "The power ground pins for both input and output returns for the internal VLDO.", H1 GND1 (power) "Power Ground Pins for Both Input and Output Returns.", H7 GND1 (power) "Power Ground Pins for Both Input and Output Returns.", H8 GND1 (power) "Power Ground Pins for Both Input and Output Returns.", H9 GND1 (power) "Power Ground Pins for Both Input and Output Returns.", H10 GND1 (power) "Power Ground Pins for Both Input and Output Returns.", H11 GND1 (power) "Power Ground Pins for Both Input and Output Returns.", H12 GND1 (power) "Power Ground Pins for Both Input and Output Returns.", J6 GND1 (power) "Power Ground Pins for Both Input and Output Returns.", J7 GND1 (power) "Power Ground Pins for Both Input and Output Returns.", J8 GND1 (power) "Power Ground Pins for Both Input and Output Returns.", J9 GND1 (power) "Power Ground Pins for Both Input and Output Returns.", J10 GND1 (power) "Power Ground Pins for Both Input and Output Returns.", J11 GND1 (power) "Power Ground Pins for Both Input and Output Returns.", J12 GND1 (power) "Power Ground Pins for Both Input and Output Returns.", K6 GND1 (power) "Power Ground Pins for Both Input and Output Returns.", K7 GND1 (power) "Power Ground Pins for Both Input and Output Returns.", K8 GND1 (power) "Power Ground Pins for Both Input and Output Returns.", L1 GND1 (power) "Power Ground Pins for Both Input and Output Returns.", L7 GND1 (power) "Power Ground Pins for Both Input and Output Returns.", L8 GND1 (power) "Power Ground Pins for Both Input and Output Returns.", M1 GND1 (power) "Power Ground Pins for Both Input and Output Returns.", M2 GND1 (power) "Power Ground Pins for Both Input and Output Returns.", M3 GND1 (power) "Power Ground Pins for Both Input and Output Returns.", M4 GND1 (power) "Power Ground Pins for Both Input and Output Returns.", M5 GND1 (power) "Power Ground Pins for Both Input and Output Returns.", M6 GND1 (power) "Power Ground Pins for Both Input and Output Returns.", M7 GND1 (power) "Power Ground Pins for Both Input and Output Returns.", M8 GND1 (power) "Power Ground Pins for Both Input and Output Returns."